# Altium integrated library thymio-RF.IntLib: 10 symbols
Pins are listed as number, name and electrical type; pins without a type are passive.

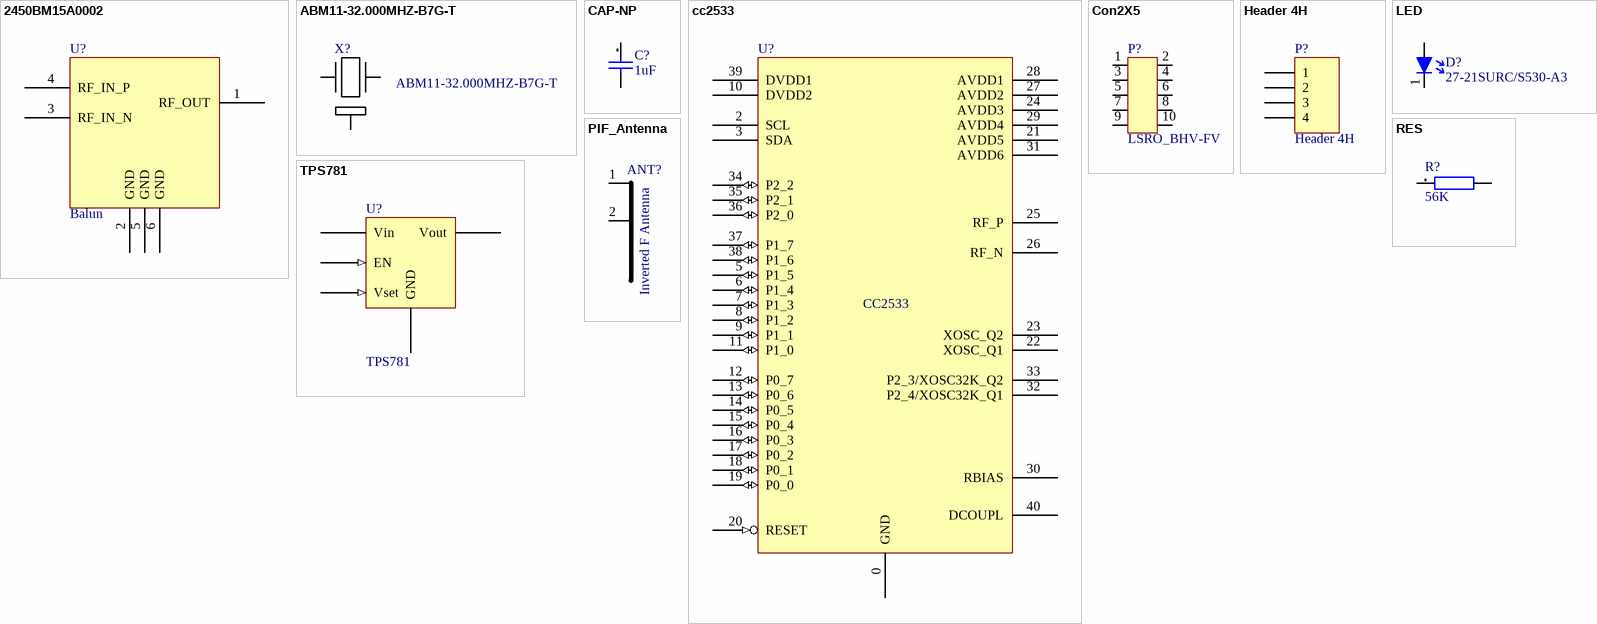
[diagram p0: symbols 2450BM15A0002 to TPS781]

## 2450BM15A0002
designator U?, comment Balun
Balun for CC253x
footprint 2450BM15A0002 (Johanson Balun)
pins: 1 RF_OUT, 2 GND, 3 RF_IN_N, 4 RF_IN_P, 5 GND, 6 GND

## ABM11-32.000MHZ-B7G-T
designator X?
32Mhz Crystal, 15ppm
footprint Abracon-ABM11
pins: 0 GND (power), 1 (power), 2 (power)

## CAP-NP
designator C?, comment 1uF
Capacitor; Manufacturer: Kemet; Manufacturer Nr: C0402C105K9PAC; Preference: 1; Tolerance +: +10; Tolerance -: -10; Dielectric: X5R; Voltage: 6.3; MaxTemperature: +85; MinTemperature: -55; Quant_1: 10; Quant_2: 100; Quant_3: 1000; Quant_4: 4000; Currentie: CHF; Size: 0402; Footprint Acort: 0402; Supplier: Farnell; Supplier Nr: 1288253; ComponentLink2Description: Farnell link; ComponentLink2URL: http://ch.farnell.com/jsp/displayProduct.jsp?sku=1288253; Price_1: 0.11; Price_2: 0.089; Price_3: 0.078; Price_4: 0.068; ROHS: True; DateLastUpdate: 2007-12-03 / 14:22:43
footprint CAPC1005X05L
footprint CAPC1005X05M
footprint CAPC1005X05N
pins: 1, 2

## cc2533
designator U?, comment CC2533
footprint QFN50P600X600X100-40L (QFN, 40-Leads, Body 6.2x6.2mm (max), Pitch 0.50mm, IPC High Density)
pins: 0 GND (power), 1 NC hidden, 2 SCL (oc), 3 SDA (oc), 4 NC hidden, 5 P1_5 (io), 6 P1_4 (io), 7 P1_3 (io), 8 P1_2 (io), 9 P1_1 (io), 10 DVDD2 (power), 11 P1_0 (io), 12 P0_7 (io), 13 P0_6 (io), 14 P0_5 (io), 15 P0_4 (io), 16 P0_3 (io), 17 P0_2 (io), 18 P0_1 (io), 19 P0_0 (io), 20 RESET (in), 21 AVDD5 (power), 22 XOSC_Q1, 23 XOSC_Q2, 24 AVDD3 (power), 25 RF_P, 26 RF_N, 27 AVDD2 (power), 28 AVDD1 (power), 29 AVDD4 (power), 30 RBIAS, 31 AVDD6 (power), 32 P2_4/XOSC32K_Q1, 33 P2_3/XOSC32K_Q2, 34 P2_2 (io), 35 P2_1 (io), 36 P2_0 (io), 37 P1_7 (io), 38 P1_6 (io), 39 DVDD1 (power), 40 DCOUPL

## Con2X5
designator P?, comment LSRO_BHV-FV
dsPIC LSRO connector  :Based on the 2 x 5 Socket CLE Series, 0.80 mm pitch, SMD, 3.30mm height, 0.75A; Manufacturer: Samtec; Manufacturer Nr: CLE-105-01-G-DV; Preference: 1; Currentie: USD; Quant_2: 500; Quant_3: 2500; Quant_4: 5000; Footprint Acort: SAMF10_08MM; ComponentLink1Description: Supplier link; ComponentLink1URL: http://samtec.com/technical_specifications/overview.aspx?series=CLE; Supplier: Samtec; Supplier Nr: CLE-105-01-G-DV; ROHS: True; Type: SMD; Orientation: Vertical; DateLastUpdate: 2012-01-18 / 15:26:31; Quant_1: 1; Price_1: 1.26; Price_2: 1.07; Price_3: 0.886; Price_4: 0.759
footprint LSRO_BHV-FV
pins: 1, 2, 3, 4, 5, 6, 7, 8, 9, 10

## Header 4H
designator P?
Header, 4-Pin, Right Angle; LatestRevisionDate: 17-Jul-2002; LatestRevisionNote: Re-released for DXP Platform.; Publisher: Altium Limited
footprint HDR1X4H (Connector; Header; 4 Position; Right Angle)
signal-integrity model Connector
pins: 1, 2, 3, 4

## LED
designator D?, comment 27-21SURC/S530-A3
SMD Red led right angle mount 2V@20ma 57mcd; VerifiedComment: ToDo; LayerSch: Top
footprint Led-side
pins: 1 K, 2 A

## PIF_Antenna
designator ANT?, comment Inverted F Antenna  (net tie, no BOM)
footprint IFA_2; pin to pad 1>2 2>1
pins: 1 GND, 2 Input

## RES
designator R?, comment 56K
Resistor; Manufacturer: Phycomp; Manufacturer Nr: 232270591001; Tolerance: +/-1; Preference: 1; Power: 0.063; Voltage: 50; ppm/K: +/-200; Quant_2: 1000; Quant_3: 5000; Quant_4: 15000; Currentie: CHF; Size: 0402; Footprint Acort: 0402; Supplier: Farnell; Supplier Nr: 9232516; ComponentLink2Description: Farnell link; ComponentLink2URL: http://ch.farnell.com/jsp/displayProduct.jsp?sku=9232516; Current: 1; ROHS: True; Quant_1: 50; Price_1: 0.112; Price_2: 0.082; Price_3: 0.071; Price_4: 0.061; DateLastUpdate: 2007-11-29 / 09:12:23
footprint RESC1005X04N
footprint RESC1005X04L
footprint RESC1005X04M
pins: 1, 2

## TPS781
designator U?
150mA LDO
footprint QFN65P200X200X80-6N (QFN, 6-Leads, Body 2.1x2.1mm (max), Pitch 0.65mm, IPC Medium Density); pin to pad 1>6 2>4 4>5 5>1
pins: 1 Vin (power), 2 EN (in), 3 Vset (in), 4 GND (power), 5 Vout (power)